# Altium schematic symbol library VND830SP.SchLib: 1 symbol
Pins are listed as number, name and electrical type; pins without a type are passive.

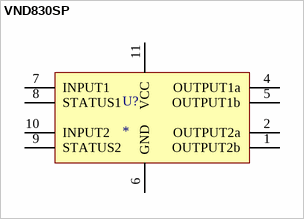
[diagram p0: symbol VND830SP]

## VND830SP
designator U?
High Side Driver
pins: 1 OUTPUT2b, 2 OUTPUT2a, 4 OUTPUT1a, 5 OUTPUT1b, 6 GND, 7 INPUT1, 8 STATUS1, 9 STATUS2, 10 INPUT2, 11 VCC